# EAGLE library part 621X2821021 (library Board-to-Board (rev18a))
WR-PHD 1.27mm Dual SMT Pin Header H=3.80 mm, 28 Pins=>Code : Con_BTB_PHD_1.27_2_621x2821021(Packaging:x = 0: Tube x = 3: Tape & Reel with Cap) <http://katalog.we-online.de/media/thumbs2/eican/thb_Con_BTB_PHD_1.27_2_6210xx21021_pf2.jpg> 6210xx21021 Details see: http://katalog.we-online.de/en/em/621_0xx_210_21 6213xx21021 Details see: http://katalog.we-online.de/en/em/PHD_1_27_SMT_DUAL_PIN_HEADER_REEL_6213XX21021 2014 (C) Würth Elektronik
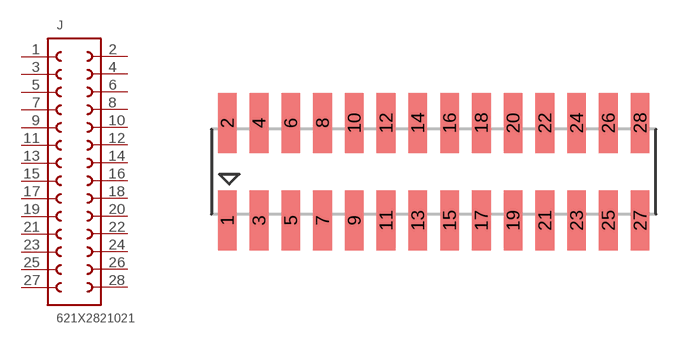
[diagram p282: symbol with the pads of 621X2821021; footprint 621X2821021]

Designator prefix J

## 621X2821021  [621X2821021]
1  1  pas
2  28  pas
3  2  pas
4  27  pas
5  3  pas
6  26  pas
7  4  pas
8  25  pas
9  5  pas
10  24  pas
11  6  pas
12  23  pas
13  7  pas
14  22  pas
15  8  pas
16  21  pas
17  9  pas
18  20  pas
19  10  pas
20  19  pas
21  11  pas
22  18  pas
23  12  pas
24  17  pas
25  13  pas
26  16  pas
27  14  pas
28  15  pas

## Footprint 621X2821021 (pad centres in mm)
WR-PHD 1.27mm Dual SMT Pin Header H=3.80 mm, 28 Pins
smd 0.75 x 2.4: 1 -8.255,-1.95; 2 -8.255,1.95; 3 -6.985,-1.95; 4 -6.985,1.95; 5 -5.715,-1.95; 6 -5.715,1.95; 7 -4.445,-1.95; 8 -4.445,1.95; 9 -3.175,-1.95; 10 -3.175,1.95; 11 -1.905,-1.95; 12 -1.905,1.95; 13 -0.635,-1.95; 14 -0.635,1.95; 15 0.635,-1.95; 16 0.635,1.95; 17 1.905,-1.95; 18 1.905,1.95; 19 3.175,-1.95; 20 3.175,1.95; 21 4.445,-1.95; 22 4.445,1.95; 23 5.715,-1.95; 24 5.715,1.95; 25 6.985,-1.95; 26 6.985,1.95; 27 8.255,-1.95; 28 8.255,1.95